# Altium schematic symbol library SCH - SENSOR - TEMPERATURE - MICROCHIP EMC1833.SchLib: 1 symbol
Pins are listed as number, name and electrical type; pins without a type are passive.

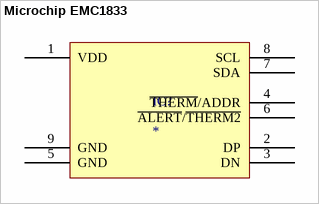
[diagram p0: symbol Microchip EMC1833]

## Microchip EMC1833
designator IC?
pins: 1 VDD, 2 DP, 3 DN, 4 ~{THERM}/ADDR, 5 GND, 6 ~{ALERT}/~{THERM2}, 7 SDA, 8 SCL, 9 GND "Exposed Thermal Pad"